# Altium integrated library IRM-15-5.IntLib: 1 symbol
Pins are listed as number, name and electrical type; pins without a type are passive.

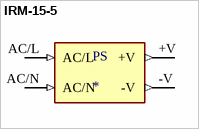
[diagram p0: symbol IRM-15-5]

## IRM-15-5
designator PS
Enclosed AC DC Converters 1 Uitgang 5V 3A 85 ~ 264 VAC, 120 ~ 370 VDC Input; MP: IRM-15-5; MF: MEAN WELL; SnapEDA_Link: https://www.snapeda.com/parts/IRM-15-5/MEAN%20WELL%20USA%20Inc./view-part/275136/?ref=snap; Package: DIP-4 Mean Well; Value: *; Digi-Key_Purchase_URL: https://www.digikey.com/product-detail/en/mean-well-usa-inc/IRM-15-5/1866-3037-ND/7704662?utm_source=snapeda&utm_medium=aggregator&utm_campaign=symbol; Digi-Key_Part_Number: 1866-3037-ND
footprint CONV_IRM-15-5
pins: +V (out), -V (out), AC/L (in), AC/N (in)